# EAGLE library part ESP32-S2-WROOM (library all-chips)
ESP32-S2-WROOM Espressif WiFi Modules - 802.11, 3.3V 32Mbits SPI flash, IPEX antenna connector
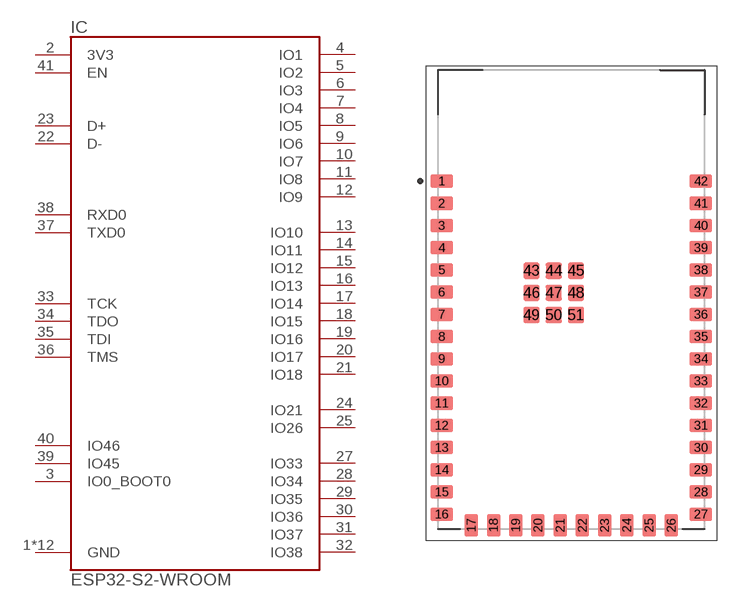
[diagram p32: symbol with the pads of ESP32-S2-WROOM-MODULE; footprint ESP32-S2-WROOM-MODULE]

Designator prefix IC

## ESP32-S2-WROOM  [ESP32-S2-WROOM-MODULE]
1  GND  pwr
2  3V3  pwr
3  IO0_BOOT0
4  IO1
5  IO2
6  IO3
7  IO4
8  IO5
9  IO6
10  IO7
11  IO8
12  IO9
13  IO10
14  IO11
15  IO12
16  IO13
17  IO14
18  IO15
19  IO16
20  IO17
21  IO18
22  D-
23  D+
24  IO21
25  IO26
26  GND  pwr
27  IO33
28  IO34
29  IO35
30  IO36
31  IO37
32  IO38
33  TCK
34  TDO
35  TDI
36  TMS
37  TXD0
38  RXD0
39  IO45
40  IO46
41  EN  in
42  GND  pwr
43  GND  pwr
44  GND  pwr
45  GND  pwr
46  GND  pwr
47  GND  pwr
48  GND  pwr
49  GND  pwr
50  GND  pwr
51  GND  pwr

## Footprint ESP32-S2-WROOM-MODULE (pad centres in mm)
smd 1.5 x 0.9: 1 -8.75,8; 2 -8.75,6.5; 3 -8.75,5; 4 -8.75,3.5; 5 -8.75,2; 6 -8.75,0.5; 7 -8.75,-1; 8 -8.75,-2.5; 9 -8.75,-4; 10 -8.75,-5.5; 11 -8.75,-7; 12 -8.75,-8.5; 13 -8.75,-10; 14 -8.75,-11.5; 15 -8.75,-13; 16 -8.75,-14.5; 27 8.75,-14.5; 28 8.75,-13; 29 8.75,-11.5; 30 8.75,-10; 31 8.75,-8.5; 32 8.75,-7; 33 8.75,-5.5; 34 8.75,-4; 35 8.75,-2.5; 36 8.75,-1; 37 8.75,0.5; 38 8.75,2; 39 8.75,3.5; 40 8.75,5; 41 8.75,6.5; 42 8.75,8
smd 0.9 x 1.5: 17 -6.75,-15.25; 18 -5.25,-15.25; 19 -3.75,-15.25; 20 -2.25,-15.25; 21 -0.75,-15.25; 22 0.75,-15.25; 23 2.25,-15.25; 24 3.75,-15.25; 25 5.25,-15.25; 26 6.75,-15.25
smd 1.1 x 1.1: 43 -2.69,1.95; 44 -1.19,1.95; 45 0.31,1.95; 46 -2.69,0.45; 47 -1.19,0.45; 48 0.31,0.45; 49 -2.69,-1.05; 50 -1.19,-1.05; 51 0.31,-1.05